# Altium footprint library DIOAD1408W86L464D236.PcbLib: 1 footprints
Each footprint in its own frame and in the unit in brackets; x right, y up, seen from the top. Pads: shape width x height; smd on the part's side, far side on the other; paste and mask are expansions set on the pad; w line width, h text height; cw(c..) or ccw(c..) is an arc to the next point about the centre after c.
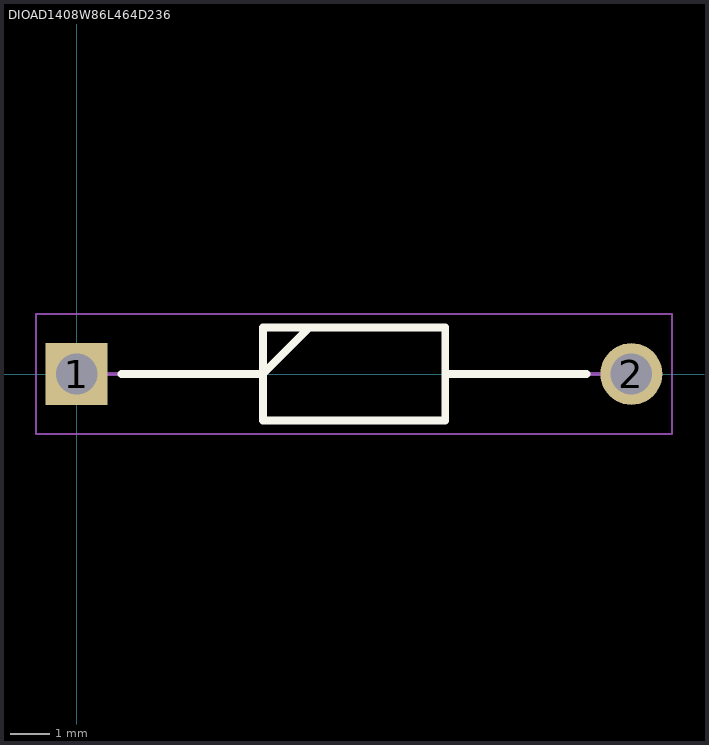
[diagram p0: the footprint, top view; thin cyan lines are the x and y axes]

## DIOAD1408W86L464D236 [mm]
pads (2):
  rect 1.575x1.575 / inner round 1.575 / far side rect 1.575x1.575 hole 1.05: 1(0,0)
  round 1.575 hole 1.05: 2(14.1,0)
Top Overlay:
  lines w0.2: 1.138,0 4.732,0 5.912,1.18 ; 9.368,0 12.962,0 ; 4.732,-1.18 9.368,-1.18 9.368,1.18 4.732,1.18 4.732,-1.18
Mechanical 15:
  lines w0.1: 0,0 4.732,0 5.912,1.18 ; 9.368,0 14.1,0 ; 4.732,-1.18 9.367,-1.18 9.367,1.18 4.732,1.18 4.732,-1.18
Mechanical 20:
  lines w0.05: -1.038,-1.53 15.137,-1.53 15.137,1.53 -1.038,1.53 -1.038,-1.53